# EAGLE library part ESP3212 (library esp3212-ptw)
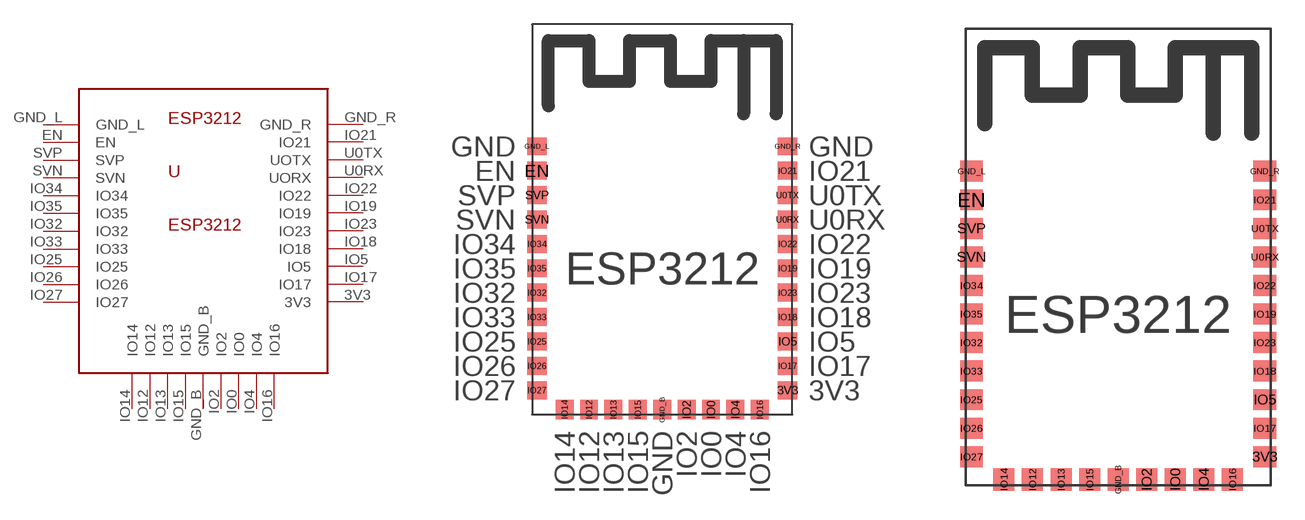
[diagram p0: symbol with the pads of ESP3212; footprints ESP3212, ESP3212_NOPINLABELS]

Designator prefix -

## ESP3212LABELS  [ESP3212]
3V3  3V3
EN  EN
GND_B  GND_B
GND_L  GND_L
GND_R  GND_R
IO0  IO0
IO2  IO2
IO4  IO4
IO5  IO5
IO12  IO12
IO13  IO13
IO14  IO14
IO15  IO15
IO16  IO16
IO17  IO17
IO18  IO18
IO19  IO19
IO21  IO21
IO22  IO22
IO23  IO23
IO25  IO25
IO26  IO26
IO27  IO27
IO32  IO32
IO33  IO33
IO34  IO34
IO35  IO35
SVN  SVN
SVP  SVP
U0RX  UORX
U0TX  UOTX

## ESP3212NOLABELS  [ESP3212_NOPINLABELS]
Pads as for ESP3212

## Footprint ESP3212 (pad centres in mm)
smd 1.2 x 1.1: 3V3 15.7,1.5; EN 0.3,15; GND_L 0.3,16.5; GND_R 15.7,16.5; IO5 15.7,4.5; IO17 15.7,3; IO18 15.7,6; IO19 15.7,9; IO21 15.7,15; IO22 15.7,10.5; IO23 15.7,7.5; IO25 0.3,4.5; IO26 0.3,3; IO27 0.3,1.5; IO32 0.3,7.5; IO33 0.3,6; IO34 0.3,10.5; IO35 0.3,9; SVN 0.3,12; SVP 0.3,13.5; U0RX 15.7,12; U0TX 15.7,13.5
smd 1.1 x 1.2: GND_B 8,0.3; IO0 11,0.3; IO2 9.5,0.3; IO4 12.5,0.3; IO12 3.5,0.3; IO13 5,0.3; IO14 2,0.3; IO15 6.5,0.3; IO16 14,0.3

## Footprint ESP3212_NOPINLABELS (pad centres in mm)
smd 1.2 x 1.1: 3V3 15.7,1.5; EN 0.3,15; GND_L 0.3,16.5; GND_R 15.7,16.5; IO5 15.7,4.5; IO17 15.7,3; IO18 15.7,6; IO19 15.7,9; IO21 15.7,15; IO22 15.7,10.5; IO23 15.7,7.5; IO25 0.3,4.5; IO26 0.3,3; IO27 0.3,1.5; IO32 0.3,7.5; IO33 0.3,6; IO34 0.3,10.5; IO35 0.3,9; SVN 0.3,12; SVP 0.3,13.5; U0RX 15.7,12; U0TX 15.7,13.5
smd 1.1 x 1.2: GND_B 8,0.3; IO0 11,0.3; IO2 9.5,0.3; IO4 12.5,0.3; IO12 3.5,0.3; IO13 5,0.3; IO14 2,0.3; IO15 6.5,0.3; IO16 14,0.3